# Altium footprint library PCB - SWITCH - PANASONIC EVQP7A+J.PcbLib: 1 footprints
Each footprint in its own frame and in the unit in brackets; x right, y up, seen from the top. Pads: shape width x height; smd on the part's side, far side on the other; paste and mask are expansions set on the pad; w line width, h text height; cw(c..) or ccw(c..) is an arc to the next point about the centre after c.
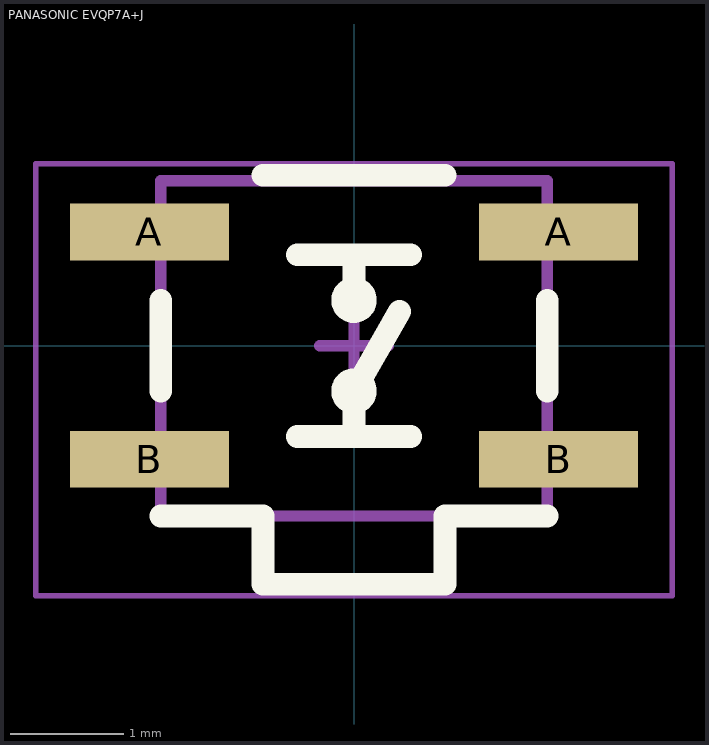
[diagram p0: the footprint, top view; thin cyan lines are the x and y axes]

## PANASONIC EVQP7A+J [mm] "Tactile Switch SPST-NO Side Actuated Surface Mount, Right Angle"
height 1.35
pads (4):
  rect 1.4x0.5 smd mask+0.1: A(-1.8,1) A(1.8,1) B(-1.8,-1) B(1.8,-1)
Top Overlay:
  circle w0.2: c0,0.4 r0.1
  circle w0.2: c0,-0.4 r0.1
  lines w0.2: -1.7,-1.5 -0.8,-1.5 -0.8,-2.1 0.8,-2.1 0.8,-1.5 1.7,-1.5 ; -1.7,-0.4 -1.7,0.4 ; -0.8,1.5 0.8,1.5 ; -0.5,-0.8 0.5,-0.8 ; -0.5,0.8 0.5,0.8 ; 0,-0.8 0,-0.4 0.4,0.3 ; 0,0.4 0,0.8 ; 1.7,-0.4 1.7,0.4
Mechanical 13:
  lines w0.1: -0.8,-1.5 -0.8,-2.1 0.8,-2.1 0.8,-1.5 ; -1.7,-1.5 -1.7,1.45 1.7,1.45 1.7,-1.5 -1.7,-1.5
Mechanical 15 (Mech15):
  lines w0.05: -2.8,-2.2 -2.8,1.6 2.8,1.6 2.8,-2.2 -2.8,-2.2
  lines w0.1: -0.3,0 0.3,0 ; 0,-0.3 0,0.3
3D body "Panasonic EVQ-P7A01P.step": height 1.35, standoff 0, extent -2.35,-2.1 2.35,1.45